# Altium footprint library 2n2222.PcbLib: 1 footprints
Each footprint in its own frame and in the unit in brackets; x right, y up, seen from the top. Pads: shape width x height; smd on the part's side, far side on the other; paste and mask are expansions set on the pad; w line width, h text height; cw(c..) or ccw(c..) is an arc to the next point about the centre after c.
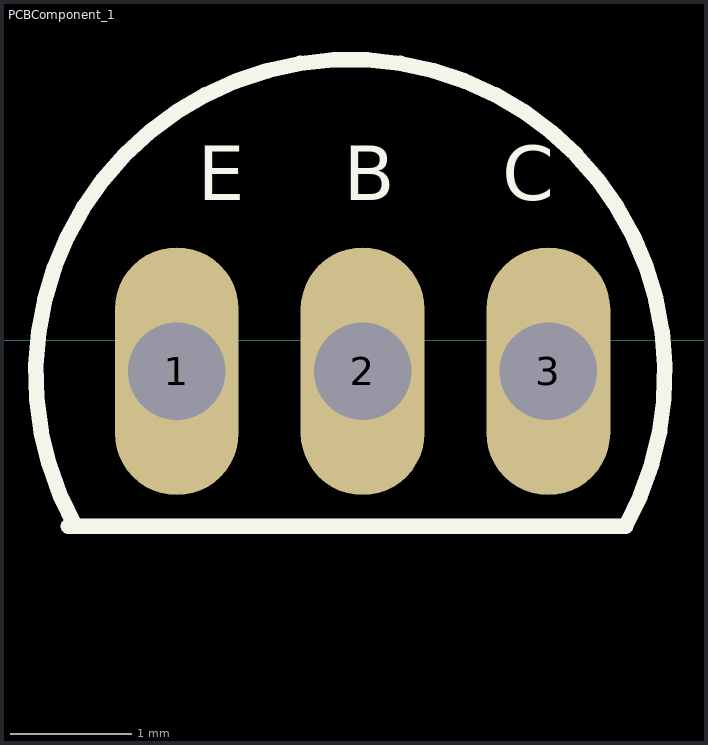
[diagram p0: the footprint, top view; thin cyan lines are the x and y axes]

## PCBComponent_1 [mil]
pads (3):
  oval 40x80 hole 31.49 unplated: 1(-250,-10) 2(-190,-10) 3(-130,-10)
Top Overlay:
  lines w5: -285,-60 -105,-60 ccw(c-193.94,-10.9) -282.89,-60
  text "E" at -243.31,39.37 h30
  text "B" at -196.06,39.37 h30
  text "C" at -144.88,39.37 h30
3D body: height 196.85, standoff -39.37, extent -253.98,-20.78 -230.4,2.75
3D body: height 196.85, standoff -39.37, extent -202.8,-21.76 -179.22,1.76
3D body: height 196.85, standoff -39.37, extent -153.58,-20.78 -130.01,2.75
3D body: height 314.96, standoff 157.48, extent -279.57,-58.23 -102.4,79.57